# Altium footprint library PcbLib1.PcbLib: 90 footprints (part 5 of 6)
Each footprint in its own frame and in the unit in brackets; x right, y up, seen from the top. Pads: shape width x height; smd on the part's side, far side on the other; paste and mask are expansions set on the pad; w line width, h text height; cw(c..) or ccw(c..) is an arc to the next point about the centre after c.
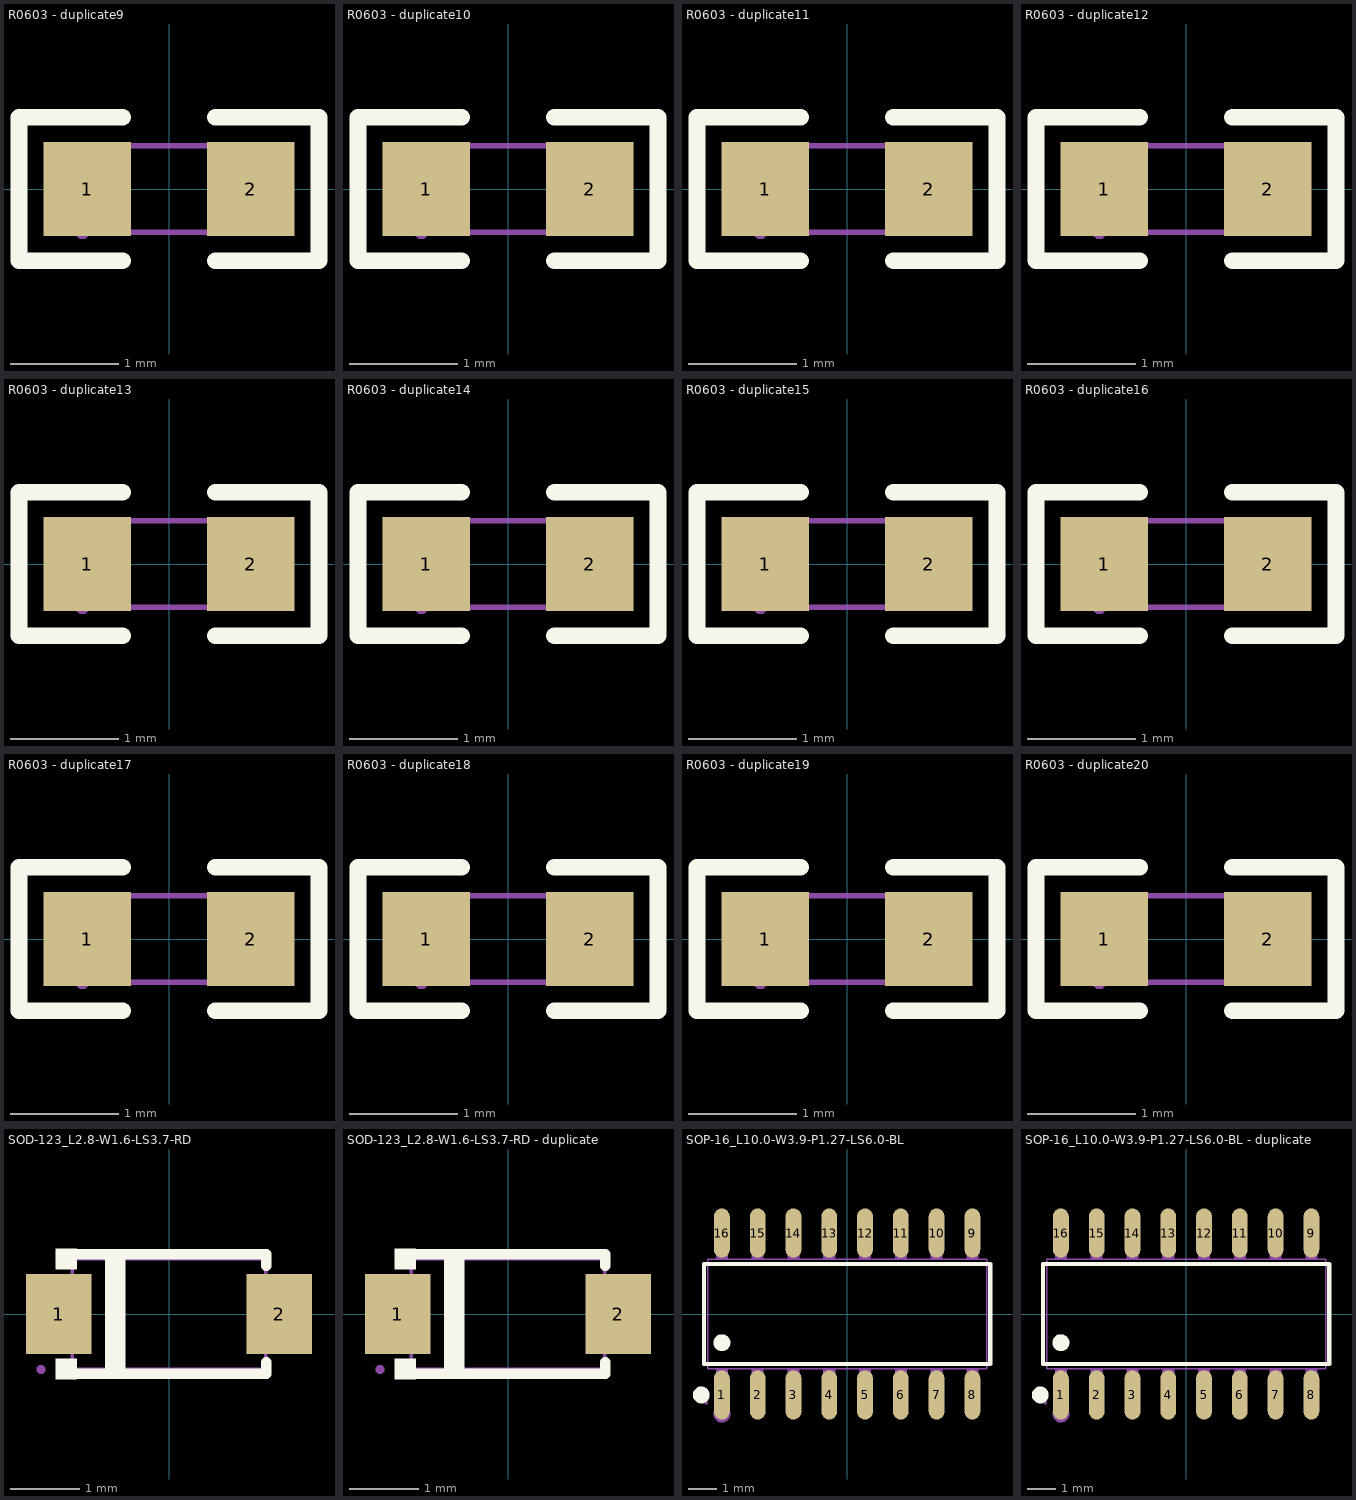
[diagram p4: the footprints below, top view; thin cyan lines are the x and y axes]

## R0603 - duplicate9 [mm]
pads (2):
  rect 0.806x0.864 smd paste-100 mask+0.051: 1(-0.753,0) 2(0.753,0)
Top Overlay:
  lines w0.152: -0.426,-0.661 -1.385,-0.661 -1.385,0.661 -0.426,0.661 ; 0.426,-0.661 1.385,-0.661 1.385,0.661 0.426,0.661
Top Paste:
  region: -1.195,-0.45 -0.395,-0.45 -0.345,-0.4 -0.345,-0.172 -0.715,-0.172 -0.715,0.158 -0.345,0.158 -0.345,0.4 -0.395,0.45 -1.195,0.45 -1.245,0.4 -1.245,-0.4
  region: 1.195,0.45 0.395,0.45 0.345,0.4 0.345,0.172 0.715,0.172 0.715,-0.158 0.345,-0.158 0.345,-0.4 0.395,-0.45 1.195,-0.45 1.245,-0.4 1.245,0.4
Mechanical 7:
  lines w0.051: -0.8,-0.4 0.8,-0.4 0.8,0.4 -0.8,0.4 -0.8,-0.4
Mechanical 8:
  region: -0.74,-0.4 -0.74,-0.425 -0.775,-0.46 -0.825,-0.46 -0.86,-0.425 -0.86,-0.4 -0.86,-0.375 -0.825,-0.34 -0.775,-0.34 -0.74,-0.375
Mechanical 9:
  region: 0.8,-0.4 0.8,0.4 0.5,0.4 0.5,-0.4
  region: -0.8,-0.4 -0.8,0.4 -0.5,0.4 -0.5,-0.4

## R0603 - duplicate10 [mm]
pads (2):
  rect 0.806x0.864 smd paste-100 mask+0.051: 1(-0.753,0) 2(0.753,0)
Top Overlay:
  lines w0.152: -0.426,-0.661 -1.385,-0.661 -1.385,0.661 -0.426,0.661 ; 0.426,-0.661 1.385,-0.661 1.385,0.661 0.426,0.661
Top Paste:
  region: -1.195,-0.45 -0.395,-0.45 -0.345,-0.4 -0.345,-0.172 -0.715,-0.172 -0.715,0.158 -0.345,0.158 -0.345,0.4 -0.395,0.45 -1.195,0.45 -1.245,0.4 -1.245,-0.4
  region: 1.195,0.45 0.395,0.45 0.345,0.4 0.345,0.172 0.715,0.172 0.715,-0.158 0.345,-0.158 0.345,-0.4 0.395,-0.45 1.195,-0.45 1.245,-0.4 1.245,0.4
Mechanical 7:
  lines w0.051: -0.8,-0.4 0.8,-0.4 0.8,0.4 -0.8,0.4 -0.8,-0.4
Mechanical 8:
  region: -0.74,-0.4 -0.74,-0.425 -0.775,-0.46 -0.825,-0.46 -0.86,-0.425 -0.86,-0.4 -0.86,-0.375 -0.825,-0.34 -0.775,-0.34 -0.74,-0.375
Mechanical 9:
  region: 0.8,-0.4 0.8,0.4 0.5,0.4 0.5,-0.4
  region: -0.8,-0.4 -0.8,0.4 -0.5,0.4 -0.5,-0.4

## R0603 - duplicate11 [mm]
pads (2):
  rect 0.806x0.864 smd paste-100 mask+0.051: 1(-0.753,0) 2(0.753,0)
Top Overlay:
  lines w0.152: -0.426,-0.661 -1.385,-0.661 -1.385,0.661 -0.426,0.661 ; 0.426,-0.661 1.385,-0.661 1.385,0.661 0.426,0.661
Top Paste:
  region: -1.195,-0.45 -0.395,-0.45 -0.345,-0.4 -0.345,-0.172 -0.715,-0.172 -0.715,0.158 -0.345,0.158 -0.345,0.4 -0.395,0.45 -1.195,0.45 -1.245,0.4 -1.245,-0.4
  region: 1.195,0.45 0.395,0.45 0.345,0.4 0.345,0.172 0.715,0.172 0.715,-0.158 0.345,-0.158 0.345,-0.4 0.395,-0.45 1.195,-0.45 1.245,-0.4 1.245,0.4
Mechanical 7:
  lines w0.051: -0.8,-0.4 0.8,-0.4 0.8,0.4 -0.8,0.4 -0.8,-0.4
Mechanical 8:
  region: -0.74,-0.4 -0.74,-0.425 -0.775,-0.46 -0.825,-0.46 -0.86,-0.425 -0.86,-0.4 -0.86,-0.375 -0.825,-0.34 -0.775,-0.34 -0.74,-0.375
Mechanical 9:
  region: 0.8,-0.4 0.8,0.4 0.5,0.4 0.5,-0.4
  region: -0.8,-0.4 -0.8,0.4 -0.5,0.4 -0.5,-0.4

## R0603 - duplicate12 [mm]
pads (2):
  rect 0.806x0.864 smd paste-100 mask+0.051: 1(-0.753,0) 2(0.753,0)
Top Overlay:
  lines w0.152: -0.426,-0.661 -1.385,-0.661 -1.385,0.661 -0.426,0.661 ; 0.426,-0.661 1.385,-0.661 1.385,0.661 0.426,0.661
Top Paste:
  region: -1.195,-0.45 -0.395,-0.45 -0.345,-0.4 -0.345,-0.172 -0.715,-0.172 -0.715,0.158 -0.345,0.158 -0.345,0.4 -0.395,0.45 -1.195,0.45 -1.245,0.4 -1.245,-0.4
  region: 1.195,0.45 0.395,0.45 0.345,0.4 0.345,0.172 0.715,0.172 0.715,-0.158 0.345,-0.158 0.345,-0.4 0.395,-0.45 1.195,-0.45 1.245,-0.4 1.245,0.4
Mechanical 7:
  lines w0.051: -0.8,-0.4 0.8,-0.4 0.8,0.4 -0.8,0.4 -0.8,-0.4
Mechanical 8:
  region: -0.74,-0.4 -0.74,-0.425 -0.775,-0.46 -0.825,-0.46 -0.86,-0.425 -0.86,-0.4 -0.86,-0.375 -0.825,-0.34 -0.775,-0.34 -0.74,-0.375
Mechanical 9:
  region: 0.8,-0.4 0.8,0.4 0.5,0.4 0.5,-0.4
  region: -0.8,-0.4 -0.8,0.4 -0.5,0.4 -0.5,-0.4

## R0603 - duplicate13 [mm]
pads (2):
  rect 0.806x0.864 smd paste-100 mask+0.051: 1(-0.753,0) 2(0.753,0)
Top Overlay:
  lines w0.152: -0.426,-0.661 -1.385,-0.661 -1.385,0.661 -0.426,0.661 ; 0.426,-0.661 1.385,-0.661 1.385,0.661 0.426,0.661
Top Paste:
  region: -1.195,-0.45 -0.395,-0.45 -0.345,-0.4 -0.345,-0.172 -0.715,-0.172 -0.715,0.158 -0.345,0.158 -0.345,0.4 -0.395,0.45 -1.195,0.45 -1.245,0.4 -1.245,-0.4
  region: 1.195,0.45 0.395,0.45 0.345,0.4 0.345,0.172 0.715,0.172 0.715,-0.158 0.345,-0.158 0.345,-0.4 0.395,-0.45 1.195,-0.45 1.245,-0.4 1.245,0.4
Mechanical 7:
  lines w0.051: -0.8,-0.4 0.8,-0.4 0.8,0.4 -0.8,0.4 -0.8,-0.4
Mechanical 8:
  region: -0.74,-0.4 -0.74,-0.425 -0.775,-0.46 -0.825,-0.46 -0.86,-0.425 -0.86,-0.4 -0.86,-0.375 -0.825,-0.34 -0.775,-0.34 -0.74,-0.375
Mechanical 9:
  region: 0.8,-0.4 0.8,0.4 0.5,0.4 0.5,-0.4
  region: -0.8,-0.4 -0.8,0.4 -0.5,0.4 -0.5,-0.4

## R0603 - duplicate14 [mm]
pads (2):
  rect 0.806x0.864 smd paste-100 mask+0.051: 1(-0.753,0) 2(0.753,0)
Top Overlay:
  lines w0.152: -0.426,-0.661 -1.385,-0.661 -1.385,0.661 -0.426,0.661 ; 0.426,-0.661 1.385,-0.661 1.385,0.661 0.426,0.661
Top Paste:
  region: -1.195,-0.45 -0.395,-0.45 -0.345,-0.4 -0.345,-0.172 -0.715,-0.172 -0.715,0.158 -0.345,0.158 -0.345,0.4 -0.395,0.45 -1.195,0.45 -1.245,0.4 -1.245,-0.4
  region: 1.195,0.45 0.395,0.45 0.345,0.4 0.345,0.172 0.715,0.172 0.715,-0.158 0.345,-0.158 0.345,-0.4 0.395,-0.45 1.195,-0.45 1.245,-0.4 1.245,0.4
Mechanical 7:
  lines w0.051: -0.8,-0.4 0.8,-0.4 0.8,0.4 -0.8,0.4 -0.8,-0.4
Mechanical 8:
  region: -0.74,-0.4 -0.74,-0.425 -0.775,-0.46 -0.825,-0.46 -0.86,-0.425 -0.86,-0.4 -0.86,-0.375 -0.825,-0.34 -0.775,-0.34 -0.74,-0.375
Mechanical 9:
  region: 0.8,-0.4 0.8,0.4 0.5,0.4 0.5,-0.4
  region: -0.8,-0.4 -0.8,0.4 -0.5,0.4 -0.5,-0.4

## R0603 - duplicate15 [mm]
pads (2):
  rect 0.806x0.864 smd paste-100 mask+0.051: 1(-0.753,0) 2(0.753,0)
Top Overlay:
  lines w0.152: -0.426,-0.661 -1.385,-0.661 -1.385,0.661 -0.426,0.661 ; 0.426,-0.661 1.385,-0.661 1.385,0.661 0.426,0.661
Top Paste:
  region: -1.195,-0.45 -0.395,-0.45 -0.345,-0.4 -0.345,-0.172 -0.715,-0.172 -0.715,0.158 -0.345,0.158 -0.345,0.4 -0.395,0.45 -1.195,0.45 -1.245,0.4 -1.245,-0.4
  region: 1.195,0.45 0.395,0.45 0.345,0.4 0.345,0.172 0.715,0.172 0.715,-0.158 0.345,-0.158 0.345,-0.4 0.395,-0.45 1.195,-0.45 1.245,-0.4 1.245,0.4
Mechanical 7:
  lines w0.051: -0.8,-0.4 0.8,-0.4 0.8,0.4 -0.8,0.4 -0.8,-0.4
Mechanical 8:
  region: -0.74,-0.4 -0.74,-0.425 -0.775,-0.46 -0.825,-0.46 -0.86,-0.425 -0.86,-0.4 -0.86,-0.375 -0.825,-0.34 -0.775,-0.34 -0.74,-0.375
Mechanical 9:
  region: 0.8,-0.4 0.8,0.4 0.5,0.4 0.5,-0.4
  region: -0.8,-0.4 -0.8,0.4 -0.5,0.4 -0.5,-0.4

## R0603 - duplicate16 [mm]
pads (2):
  rect 0.806x0.864 smd paste-100 mask+0.051: 1(-0.753,0) 2(0.753,0)
Top Overlay:
  lines w0.152: -0.426,-0.661 -1.385,-0.661 -1.385,0.661 -0.426,0.661 ; 0.426,-0.661 1.385,-0.661 1.385,0.661 0.426,0.661
Top Paste:
  region: -1.195,-0.45 -0.395,-0.45 -0.345,-0.4 -0.345,-0.172 -0.715,-0.172 -0.715,0.158 -0.345,0.158 -0.345,0.4 -0.395,0.45 -1.195,0.45 -1.245,0.4 -1.245,-0.4
  region: 1.195,0.45 0.395,0.45 0.345,0.4 0.345,0.172 0.715,0.172 0.715,-0.158 0.345,-0.158 0.345,-0.4 0.395,-0.45 1.195,-0.45 1.245,-0.4 1.245,0.4
Mechanical 7:
  lines w0.051: -0.8,-0.4 0.8,-0.4 0.8,0.4 -0.8,0.4 -0.8,-0.4
Mechanical 8:
  region: -0.74,-0.4 -0.74,-0.425 -0.775,-0.46 -0.825,-0.46 -0.86,-0.425 -0.86,-0.4 -0.86,-0.375 -0.825,-0.34 -0.775,-0.34 -0.74,-0.375
Mechanical 9:
  region: 0.8,-0.4 0.8,0.4 0.5,0.4 0.5,-0.4
  region: -0.8,-0.4 -0.8,0.4 -0.5,0.4 -0.5,-0.4

## R0603 - duplicate17 [mm]
pads (2):
  rect 0.806x0.864 smd paste-100 mask+0.051: 1(-0.753,0) 2(0.753,0)
Top Overlay:
  lines w0.152: -0.426,-0.661 -1.385,-0.661 -1.385,0.661 -0.426,0.661 ; 0.426,-0.661 1.385,-0.661 1.385,0.661 0.426,0.661
Top Paste:
  region: -1.195,-0.45 -0.395,-0.45 -0.345,-0.4 -0.345,-0.172 -0.715,-0.172 -0.715,0.158 -0.345,0.158 -0.345,0.4 -0.395,0.45 -1.195,0.45 -1.245,0.4 -1.245,-0.4
  region: 1.195,0.45 0.395,0.45 0.345,0.4 0.345,0.172 0.715,0.172 0.715,-0.158 0.345,-0.158 0.345,-0.4 0.395,-0.45 1.195,-0.45 1.245,-0.4 1.245,0.4
Mechanical 7:
  lines w0.051: -0.8,-0.4 0.8,-0.4 0.8,0.4 -0.8,0.4 -0.8,-0.4
Mechanical 8:
  region: -0.74,-0.4 -0.74,-0.425 -0.775,-0.46 -0.825,-0.46 -0.86,-0.425 -0.86,-0.4 -0.86,-0.375 -0.825,-0.34 -0.775,-0.34 -0.74,-0.375
Mechanical 9:
  region: 0.8,-0.4 0.8,0.4 0.5,0.4 0.5,-0.4
  region: -0.8,-0.4 -0.8,0.4 -0.5,0.4 -0.5,-0.4

## R0603 - duplicate18 [mm]
pads (2):
  rect 0.806x0.864 smd paste-100 mask+0.051: 1(-0.753,0) 2(0.753,0)
Top Overlay:
  lines w0.152: -0.426,-0.661 -1.385,-0.661 -1.385,0.661 -0.426,0.661 ; 0.426,-0.661 1.385,-0.661 1.385,0.661 0.426,0.661
Top Paste:
  region: -1.195,-0.45 -0.395,-0.45 -0.345,-0.4 -0.345,-0.172 -0.715,-0.172 -0.715,0.158 -0.345,0.158 -0.345,0.4 -0.395,0.45 -1.195,0.45 -1.245,0.4 -1.245,-0.4
  region: 1.195,0.45 0.395,0.45 0.345,0.4 0.345,0.172 0.715,0.172 0.715,-0.158 0.345,-0.158 0.345,-0.4 0.395,-0.45 1.195,-0.45 1.245,-0.4 1.245,0.4
Mechanical 7:
  lines w0.051: -0.8,-0.4 0.8,-0.4 0.8,0.4 -0.8,0.4 -0.8,-0.4
Mechanical 8:
  region: -0.74,-0.4 -0.74,-0.425 -0.775,-0.46 -0.825,-0.46 -0.86,-0.425 -0.86,-0.4 -0.86,-0.375 -0.825,-0.34 -0.775,-0.34 -0.74,-0.375
Mechanical 9:
  region: 0.8,-0.4 0.8,0.4 0.5,0.4 0.5,-0.4
  region: -0.8,-0.4 -0.8,0.4 -0.5,0.4 -0.5,-0.4

## R0603 - duplicate19 [mm]
pads (2):
  rect 0.806x0.864 smd paste-100 mask+0.051: 1(-0.753,0) 2(0.753,0)
Top Overlay:
  lines w0.152: -0.426,-0.661 -1.385,-0.661 -1.385,0.661 -0.426,0.661 ; 0.426,-0.661 1.385,-0.661 1.385,0.661 0.426,0.661
Top Paste:
  region: -1.195,-0.45 -0.395,-0.45 -0.345,-0.4 -0.345,-0.172 -0.715,-0.172 -0.715,0.158 -0.345,0.158 -0.345,0.4 -0.395,0.45 -1.195,0.45 -1.245,0.4 -1.245,-0.4
  region: 1.195,0.45 0.395,0.45 0.345,0.4 0.345,0.172 0.715,0.172 0.715,-0.158 0.345,-0.158 0.345,-0.4 0.395,-0.45 1.195,-0.45 1.245,-0.4 1.245,0.4
Mechanical 7:
  lines w0.051: -0.8,-0.4 0.8,-0.4 0.8,0.4 -0.8,0.4 -0.8,-0.4
Mechanical 8:
  region: -0.74,-0.4 -0.74,-0.425 -0.775,-0.46 -0.825,-0.46 -0.86,-0.425 -0.86,-0.4 -0.86,-0.375 -0.825,-0.34 -0.775,-0.34 -0.74,-0.375
Mechanical 9:
  region: 0.8,-0.4 0.8,0.4 0.5,0.4 0.5,-0.4
  region: -0.8,-0.4 -0.8,0.4 -0.5,0.4 -0.5,-0.4

## R0603 - duplicate20 [mm]
pads (2):
  rect 0.806x0.864 smd paste-100 mask+0.051: 1(-0.753,0) 2(0.753,0)
Top Overlay:
  lines w0.152: -0.426,-0.661 -1.385,-0.661 -1.385,0.661 -0.426,0.661 ; 0.426,-0.661 1.385,-0.661 1.385,0.661 0.426,0.661
Top Paste:
  region: -1.195,-0.45 -0.395,-0.45 -0.345,-0.4 -0.345,-0.172 -0.715,-0.172 -0.715,0.158 -0.345,0.158 -0.345,0.4 -0.395,0.45 -1.195,0.45 -1.245,0.4 -1.245,-0.4
  region: 1.195,0.45 0.395,0.45 0.345,0.4 0.345,0.172 0.715,0.172 0.715,-0.158 0.345,-0.158 0.345,-0.4 0.395,-0.45 1.195,-0.45 1.245,-0.4 1.245,0.4
Mechanical 7:
  lines w0.051: -0.8,-0.4 0.8,-0.4 0.8,0.4 -0.8,0.4 -0.8,-0.4
Mechanical 8:
  region: -0.74,-0.4 -0.74,-0.425 -0.775,-0.46 -0.825,-0.46 -0.86,-0.425 -0.86,-0.4 -0.86,-0.375 -0.825,-0.34 -0.775,-0.34 -0.74,-0.375
Mechanical 9:
  region: 0.8,-0.4 0.8,0.4 0.5,0.4 0.5,-0.4
  region: -0.8,-0.4 -0.8,0.4 -0.5,0.4 -0.5,-0.4

## SOD-123_L2.8-W1.6-LS3.7-RD [mm]
pads (2):
  rect 0.95x1.15 smd paste+0.051: 1(-1.592,0) 2(1.592,0)
Top Overlay:
  region: -1.33,-0.942 -1.33,-0.647 -1.635,-0.647 -1.635,-0.942
  region: -1.33,0.942 -1.33,0.647 -1.635,0.647 -1.635,0.942
  lines w0.152: -1.406,-0.866 1.406,-0.866 1.406,-0.698 ; -1.406,0.866 1.406,0.866 1.406,0.698 ; -0.849,-0.866 -0.849,0.866 ; -0.706,-0.866 -0.706,0.866
Mechanical 6:
  region: 1.462,0.382 1.651,0.382 1.651,-0.376 1.462,-0.376
  region: 1.935,0.098 1.935,-0.092 1.177,-0.092 1.177,0.098
  region: -2.03,0.095 -2.03,-0.095 -1.272,-0.095 -1.272,0.095
Mechanical 7:
  lines w0.051: -1.4,-0.8 1.4,-0.8 1.4,0.8 -1.4,0.8 -1.4,-0.8
Mechanical 8:
  region: -1.789,-0.8 -1.789,-0.825 -1.824,-0.86 -1.874,-0.86 -1.909,-0.825 -1.909,-0.8 -1.909,-0.775 -1.874,-0.74 -1.824,-0.74 -1.789,-0.775
Mechanical 9:
  region: 1.249,0.5 1.849,0.5 1.849,-0.5 1.249,-0.5
  region: -1.849,0.5 -1.249,0.5 -1.249,-0.5 -1.849,-0.5

## SOD-123_L2.8-W1.6-LS3.7-RD - duplicate [mm]
pads (2):
  rect 0.95x1.15 smd paste+0.051: 1(-1.592,0) 2(1.592,0)
Top Overlay:
  region: -1.33,-0.942 -1.33,-0.647 -1.635,-0.647 -1.635,-0.942
  region: -1.33,0.942 -1.33,0.647 -1.635,0.647 -1.635,0.942
  lines w0.152: -1.406,-0.866 1.406,-0.866 1.406,-0.698 ; -1.406,0.866 1.406,0.866 1.406,0.698 ; -0.849,-0.866 -0.849,0.866 ; -0.706,-0.866 -0.706,0.866
Mechanical 6:
  region: 1.462,0.382 1.651,0.382 1.651,-0.376 1.462,-0.376
  region: 1.935,0.098 1.935,-0.092 1.177,-0.092 1.177,0.098
  region: -2.03,0.095 -2.03,-0.095 -1.272,-0.095 -1.272,0.095
Mechanical 7:
  lines w0.051: -1.4,-0.8 1.4,-0.8 1.4,0.8 -1.4,0.8 -1.4,-0.8
Mechanical 8:
  region: -1.789,-0.8 -1.789,-0.825 -1.824,-0.86 -1.874,-0.86 -1.909,-0.825 -1.909,-0.8 -1.909,-0.775 -1.874,-0.74 -1.824,-0.74 -1.789,-0.775
Mechanical 9:
  region: 1.249,0.5 1.849,0.5 1.849,-0.5 1.249,-0.5
  region: -1.849,0.5 -1.249,0.5 -1.249,-0.5 -1.849,-0.5

## SOP-16_L10.0-W3.9-P1.27-LS6.0-BL [mm]
pads (16):
  oval 0.56x1.745 smd paste+0.051: 1(-4.445,-2.872) 2(-3.175,-2.872) 3(-1.905,-2.872) 4(-0.635,-2.872) 5(0.635,-2.872) 6(1.905,-2.872) 7(3.175,-2.872) 8(4.445,-2.872) 9(4.445,2.872) 10(3.175,2.872) 11(1.905,2.872) 12(0.635,2.872) 13(-0.635,2.872) 14(-1.905,2.872) 15(-3.175,2.872) 16(-4.445,2.872)
Top Overlay:
  circle w0.3: c-5.177,-2.872 r0.15
  circle w0.3: c-4.445,-1.019 r0.15
  lines w0.152: -5.076,-1.771 5.076,-1.771 5.076,1.771 -5.076,1.771 -5.076,-1.771
Mechanical 6:
  circle w0.3: c-4.445,-3.55 r0.15
Mechanical 7:
  lines w0.051: -4.95,-1.95 4.95,-1.95 4.95,1.95 -4.95,1.95 -4.95,-1.95
Mechanical 8:
  region: -4.94,-3.15 -4.94,-3.175 -4.975,-3.21 -5.025,-3.21 -5.06,-3.175 -5.06,-3.15 -5.06,-3.125 -5.025,-3.09 -4.975,-3.09 -4.94,-3.125
Mechanical 9:
  region: -4.65,-3 -4.65,-2.165 -4.24,-2.165 -4.24,-3
  region: -3.38,-3 -3.38,-2.165 -2.97,-2.165 -2.97,-3
  region: -2.11,-3 -2.11,-2.165 -1.7,-2.165 -1.7,-3
  region: -0.84,-3 -0.84,-2.165 -0.43,-2.165 -0.43,-3
  region: 0.43,-3 0.43,-2.165 0.84,-2.165 0.84,-3
  region: 1.7,-3 1.7,-2.165 2.11,-2.165 2.11,-3
  region: 2.97,-3 2.97,-2.165 3.38,-2.165 3.38,-3
  region: 4.24,-3 4.24,-2.165 4.65,-2.165 4.65,-3
  region: -4.65,2.165 -4.65,3 -4.24,3 -4.24,2.165
  region: -3.38,2.165 -3.38,3 -2.97,3 -2.97,2.165
  region: -2.11,2.165 -2.11,3 -1.7,3 -1.7,2.165
  region: -0.84,2.165 -0.84,3 -0.43,3 -0.43,2.165
  region: 0.43,2.165 0.43,3 0.84,3 0.84,2.165
  region: 1.7,2.165 1.7,3 2.11,3 2.11,2.165
  region: 2.97,2.165 2.97,3 3.38,3 3.38,2.165
  region: 4.24,2.165 4.24,3 4.65,3 4.65,2.165
Mechanical 10:
  region: -4.65,-2.175 -4.65,-1.94 -4.24,-1.94 -4.24,-2.175
  region: -3.38,-2.175 -3.38,-1.94 -2.97,-1.94 -2.97,-2.175
  region: -2.11,-2.175 -2.11,-1.94 -1.7,-1.94 -1.7,-2.175
  region: -0.84,-2.175 -0.84,-1.94 -0.43,-1.94 -0.43,-2.175
  region: 0.43,-2.175 0.43,-1.94 0.84,-1.94 0.84,-2.175
  region: 1.7,-2.175 1.7,-1.94 2.11,-1.94 2.11,-2.175
  region: 2.97,-2.175 2.97,-1.94 3.38,-1.94 3.38,-2.175
  region: 4.24,-2.175 4.24,-1.94 4.65,-1.94 4.65,-2.175
  region: -4.65,1.94 -4.65,2.175 -4.24,2.175 -4.24,1.94
  region: -3.38,1.94 -3.38,2.175 -2.97,2.175 -2.97,1.94
  region: -2.11,1.94 -2.11,2.175 -1.7,2.175 -1.7,1.94
  region: -0.84,1.94 -0.84,2.175 -0.43,2.175 -0.43,1.94
  region: 0.43,1.94 0.43,2.175 0.84,2.175 0.84,1.94
  region: 1.7,1.94 1.7,2.175 2.11,2.175 2.11,1.94
  region: 2.97,1.94 2.97,2.175 3.38,2.175 3.38,1.94
  region: 4.24,1.94 4.24,2.175 4.65,2.175 4.65,1.94

## SOP-16_L10.0-W3.9-P1.27-LS6.0-BL - duplicate [mm]
pads (16):
  oval 0.56x1.745 smd paste+0.051: 1(-4.445,-2.872) 2(-3.175,-2.872) 3(-1.905,-2.872) 4(-0.635,-2.872) 5(0.635,-2.872) 6(1.905,-2.872) 7(3.175,-2.872) 8(4.445,-2.872) 9(4.445,2.872) 10(3.175,2.872) 11(1.905,2.872) 12(0.635,2.872) 13(-0.635,2.872) 14(-1.905,2.872) 15(-3.175,2.872) 16(-4.445,2.872)
Top Overlay:
  circle w0.3: c-5.177,-2.872 r0.15
  circle w0.3: c-4.445,-1.019 r0.15
  lines w0.152: -5.076,-1.771 5.076,-1.771 5.076,1.771 -5.076,1.771 -5.076,-1.771
Mechanical 6:
  circle w0.3: c-4.445,-3.55 r0.15
Mechanical 7:
  lines w0.051: -4.95,-1.95 4.95,-1.95 4.95,1.95 -4.95,1.95 -4.95,-1.95
Mechanical 8:
  region: -4.94,-3.15 -4.94,-3.175 -4.975,-3.21 -5.025,-3.21 -5.06,-3.175 -5.06,-3.15 -5.06,-3.125 -5.025,-3.09 -4.975,-3.09 -4.94,-3.125
Mechanical 9:
  region: -4.65,-3 -4.65,-2.165 -4.24,-2.165 -4.24,-3
  region: -3.38,-3 -3.38,-2.165 -2.97,-2.165 -2.97,-3
  region: -2.11,-3 -2.11,-2.165 -1.7,-2.165 -1.7,-3
  region: -0.84,-3 -0.84,-2.165 -0.43,-2.165 -0.43,-3
  region: 0.43,-3 0.43,-2.165 0.84,-2.165 0.84,-3
  region: 1.7,-3 1.7,-2.165 2.11,-2.165 2.11,-3
  region: 2.97,-3 2.97,-2.165 3.38,-2.165 3.38,-3
  region: 4.24,-3 4.24,-2.165 4.65,-2.165 4.65,-3
  region: -4.65,2.165 -4.65,3 -4.24,3 -4.24,2.165
  region: -3.38,2.165 -3.38,3 -2.97,3 -2.97,2.165
  region: -2.11,2.165 -2.11,3 -1.7,3 -1.7,2.165
  region: -0.84,2.165 -0.84,3 -0.43,3 -0.43,2.165
  region: 0.43,2.165 0.43,3 0.84,3 0.84,2.165
  region: 1.7,2.165 1.7,3 2.11,3 2.11,2.165
  region: 2.97,2.165 2.97,3 3.38,3 3.38,2.165
  region: 4.24,2.165 4.24,3 4.65,3 4.65,2.165
Mechanical 10:
  region: -4.65,-2.175 -4.65,-1.94 -4.24,-1.94 -4.24,-2.175
  region: -3.38,-2.175 -3.38,-1.94 -2.97,-1.94 -2.97,-2.175
  region: -2.11,-2.175 -2.11,-1.94 -1.7,-1.94 -1.7,-2.175
  region: -0.84,-2.175 -0.84,-1.94 -0.43,-1.94 -0.43,-2.175
  region: 0.43,-2.175 0.43,-1.94 0.84,-1.94 0.84,-2.175
  region: 1.7,-2.175 1.7,-1.94 2.11,-1.94 2.11,-2.175
  region: 2.97,-2.175 2.97,-1.94 3.38,-1.94 3.38,-2.175
  region: 4.24,-2.175 4.24,-1.94 4.65,-1.94 4.65,-2.175
  region: -4.65,1.94 -4.65,2.175 -4.24,2.175 -4.24,1.94
  region: -3.38,1.94 -3.38,2.175 -2.97,2.175 -2.97,1.94
  region: -2.11,1.94 -2.11,2.175 -1.7,2.175 -1.7,1.94
  region: -0.84,1.94 -0.84,2.175 -0.43,2.175 -0.43,1.94
  region: 0.43,1.94 0.43,2.175 0.84,2.175 0.84,1.94
  region: 1.7,1.94 1.7,2.175 2.11,2.175 2.11,1.94
  region: 2.97,1.94 2.97,2.175 3.38,2.175 3.38,1.94
  region: 4.24,1.94 4.24,2.175 4.65,2.175 4.65,1.94